# Altium schematic symbol library STM32G070RBT6TR.SchLib: 1 symbol
Pins are listed as number, name and electrical type; pins without a type are passive.

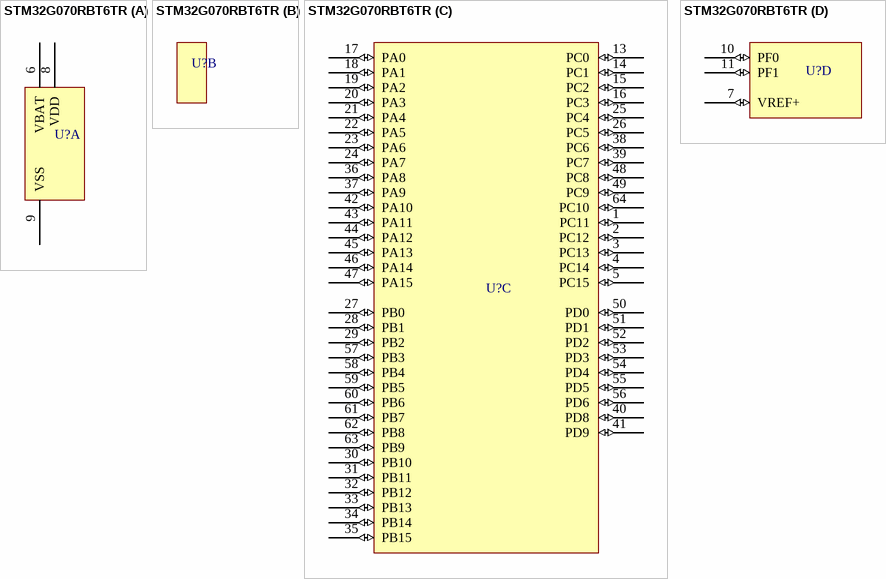
[diagram p0: symbol STM32G070RBT6TR]

## STM32G070RBT6TR
designator U?  (value not drawn)
Mainstream Value line,  Arm Cortex-M0+ MCU with 128 Kbytes of Flash memory, 36 Kbytes RAM, 64 MHz CPU, 4x USART, timers, ADC, comm. I/F, 2-3.6V
part A pins: 6 VBAT (power), 8 VDD (power), 9 VSS (power)
part C pins: 1 PC11 (io), 2 PC12 (io), 3 PC13 (io), 4 PC14 (io), 5 PC15 (io), 13 PC0 (io), 14 PC1 (io), 15 PC2 (io), 16 PC3 (io), 17 PA0 (io), 18 PA1 (io), 19 PA2 (io), 20 PA3 (io), 21 PA4 (io), 22 PA5 (io), 23 PA6 (io), 24 PA7 (io), 25 PC4 (io), 26 PC5 (io), 27 PB0 (io), 28 PB1 (io), 29 PB2 (io), 30 PB10 (io), 31 PB11 (io), 32 PB12 (io), 33 PB13 (io), 34 PB14 (io), 35 PB15 (io), 36 PA8 (io), 37 PA9 (io), 38 PC6 (io), 39 PC7 (io), 40 PD8 (io), 41 PD9 (io), 42 PA10 (io), 43 PA11 (io), 44 PA12 (io), 45 PA13 (io), 46 PA14 (io), 47 PA15 (io), 48 PC8 (io), 49 PC9 (io), 50 PD0 (io), 51 PD1 (io), 52 PD2 (io), 53 PD3 (io), 54 PD4 (io), 55 PD5 (io), 56 PD6 (io), 57 PB3 (io), 58 PB4 (io), 59 PB5 (io), 60 PB6 (io), 61 PB7 (io), 62 PB8 (io), 63 PB9 (io), 64 PC10 (io)
part D pins: 7 VREF+ (io), 10 PF0 (io), 11 PF1 (io)